# EAGLE library part MINI-SAS (library sjg-con)
Mini-SAS connector, right angle through hole Part 1888019-4 Digikey part A111092CT-ND
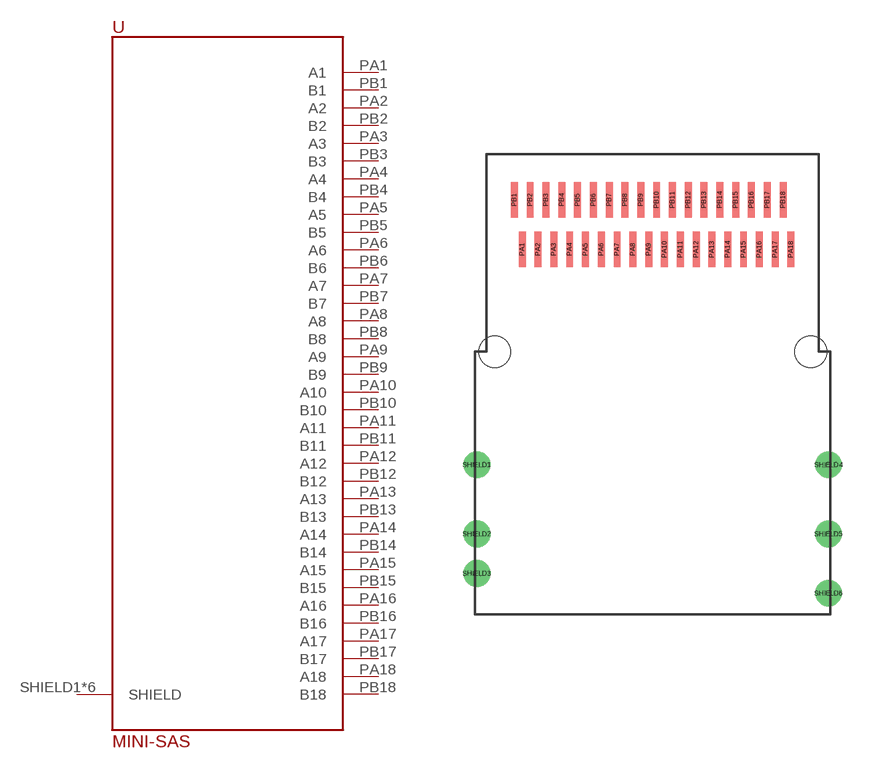
[diagram p8: symbol with the pads of MINI-SAS; footprint MINI-SAS]

Designator prefix -

## MINI-SAS  [MINI-SAS]
PA1  A1
PA2  A2
PA3  A3
PA4  A4
PA5  A5
PA6  A6
PA7  A7
PA8  A8
PA9  A9
PA10  A10
PA11  A11
PA12  A12
PA13  A13
PA14  A14
PA15  A15
PA16  A16
PA17  A17
PA18  A18
PB1  B1
PB2  B2
PB3  B3
PB4  B4
PB5  B5
PB6  B6
PB7  B7
PB8  B8
PB9  B9
PB10  B10
PB11  B11
PB12  B12
PB13  B13
PB14  B14
PB15  B15
PB16  B16
PB17  B17
PB18  B18
SHIELD1  SHIELD
SHIELD2  SHIELD
SHIELD3  SHIELD
SHIELD4  SHIELD
SHIELD5  SHIELD
SHIELD6  SHIELD

## Footprint MINI-SAS (pad centres in mm)
TE Connectivity Mini-SAS AMP connector 1888019-4 - Digikey part <https://www.digikey.com/products/en?keywords=1888019-4> and Datasheet <https://www.te.com/commerce/DocumentDelivery/DDEController?Action=srchrtrv&DocNm=1888019&DocType=Customer+Drawing&DocLang=English> Verified against drawing in datasheet
smd 0.35 x 1.8: PA1 -6.2,8.78; PA2 -5.4,8.78; PA3 -4.6,8.78; PA4 -3.8,8.78; PA5 -3,8.78; PA6 -2.2,8.78; PA7 -1.4,8.78; PA8 -0.6,8.78; PA9 0.2,8.78; PA10 1,8.78; PA11 1.8,8.78; PA12 2.6,8.78; PA13 3.4,8.78; PA14 4.2,8.78; PA15 5,8.78; PA16 5.8,8.78; PA17 6.6,8.78; PA18 7.4,8.78; PB1 -6.6,11.29; PB2 -5.8,11.29; PB3 -5,11.29; PB4 -4.2,11.29; PB5 -3.4,11.29; PB6 -2.6,11.29; PB7 -1.8,11.29; PB8 -1,11.29; PB9 -0.2,11.29; PB10 0.6,11.29; PB11 1.4,11.29; PB12 2.2,11.29; PB13 3,11.29; PB14 3.8,11.29; PB15 4.6,11.29; PB16 5.4,11.29; PB17 6.2,11.29; PB18 7,11.29
drill 0.85: SHIELD1 -8.5,-2.12; SHIELD2 -8.5,-5.62; SHIELD3 -8.5,-7.62; SHIELD4 9.3,-2.12; SHIELD5 9.3,-5.62; SHIELD6 9.3,-8.62
hole 1.6 at -7.6,3.6
hole 1.6 at 8.4,3.6